# Altium schematic symbol library MyCompLib.SchLib: 97 symbols
Pins are listed as number, name and electrical type; pins without a type are passive.

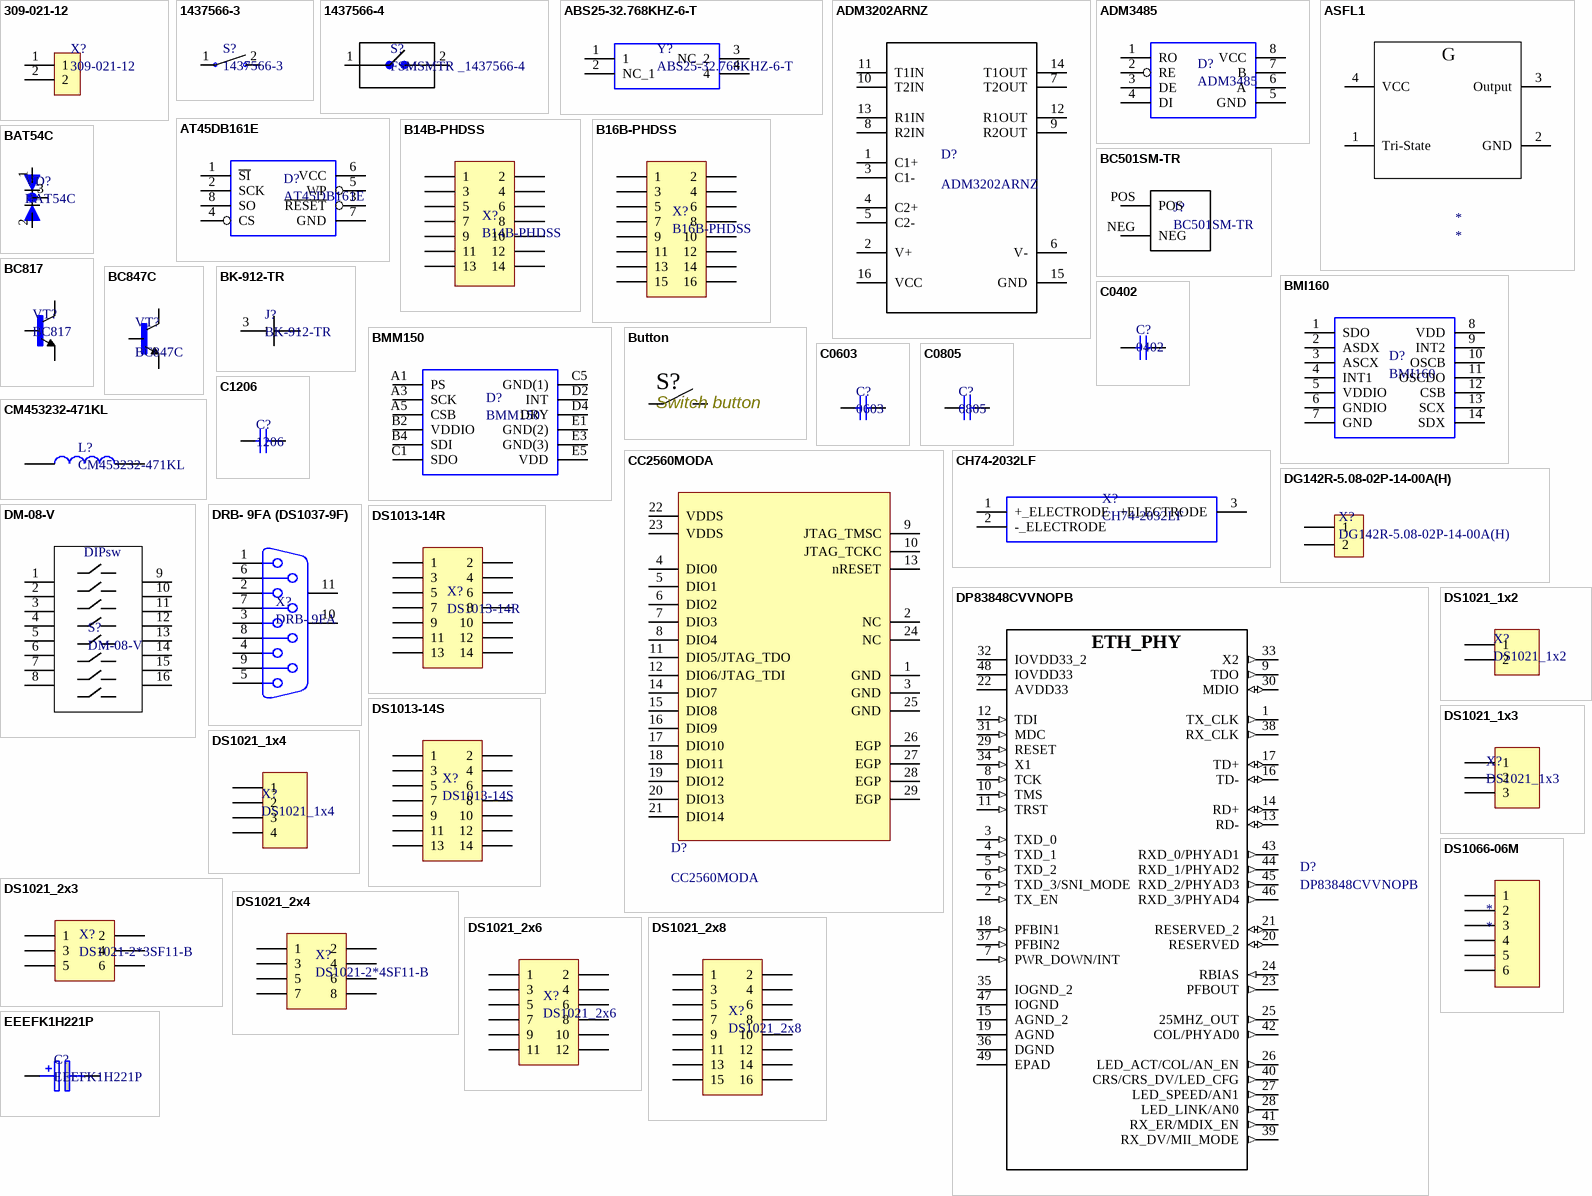
[diagram p0: symbols 309-021-12 to EEEFK1H221P]

## 309-021-12
designator X?
DG390-5.0-02P (XY118-2P-05) Зажимной Клеммник 2-контактный, 5.0мм угловой
footprint 390-021-12
pins: 1, 2

## 1437566-3
designator S?
SMD button
footprint 1437566-3
pins: 1, 2

## 1437566-4
designator S?, comment FSMSMTR _1437566-4
Switch Tactile OFF _ON_ SPST Rectangular Button Gull Wing 0.05A 12VDC 1.77N SMD T/R
footprint 1437566-4
pins: 1, 2

## ABS25-32.768KHZ-6-T
designator Y?
32.768 kHz LOW FREQUENCY SMD CRYSTAL
footprint ABS25
pins: 1, 2 NC_1, 3 NC_2, 4

## ADM3202ARNZ
designator D?
3.3V SMD RS232-UART
footprint SOIC-16
pins: 1 C1+, 2 V+ (power), 3 C1-, 4 C2+, 5 C2-, 6 V- (power), 7 T2OUT, 8 R2IN, 9 R2OUT, 10 T2IN, 11 T1IN, 12 R1OUT, 13 R1IN, 14 T1OUT, 15 GND, 16 VCC (power)

## ADM3485
designator D?
3V RS485 Transciever
footprint SOIC8 (SO-8)
pins: 1 RO, 2 RE, 3 DE, 4 DI (power), 5 GND, 6 A, 7 B, 8 VCC (power)

## ASFL1
designator *
pins: 1 Tri-State, 2 GND, 3 Output, 4 VCC
text: G

## AT45DB161E
designator D?
SPI FLASH 16Mbit(528 bytes x 4096 pages)
footprint SOIC8(5.3mm)
pins: 1 ~{SI}, 2 SCK, 3 ~{RESET}, 4 CS (power), 5 WP, 6 VCC, 7 GND, 8 SO (power)

## B14B-PHDSS
designator X?
HEADER, PHD, TOP, 16WAY, 2MM; Pitch Spacing:2mm; No. of Contacts:14Contacts;
footprint PHD14
pins: 1, 2, 3, 4, 5, 6, 7, 8, 9, 10, 11, 12, 13, 14

## B16B-PHDSS
designator X?
HEADER, PHD, TOP, 16WAY, 2MM; Pitch Spacing:2mm; No. of Contacts:16Contacts;
footprint PHD16
pins: 1, 2, 3, 4, 5, 6, 7, 8, 9, 10, 11, 12, 13, 14, 15, 16

## BAT54C
designator VD?
Small Signal Schottky Diode, Dual Common Cathode, 30 V, 200 mA, 400 mV, 600 mA, 125 C
footprint BAT54C_SOT23-3
pins: 1 A1, 2 A2, 3 C

## BC501SM-TR
designator J?
Holder Coin Cell For Cr1220 Smd
footprint BC501SM-TR
pins: NEG, POS

## BC817
designator VT?
Transistor, Npn, 0.5a, 45v, Sot23
footprint SOT23
pins: B, C, E

## BC847C
designator VT?
Транзистор BJT NPN 45В 0.1А 0.25Вт
footprint SOT23
pins: B, C, E

## BK-912-TR
designator J?
Holder Coin Cell 20mm Smd
footprint BK-912-TR (CR2032battery holder)
pins: 1 POS, 2 POS, 3 NEG

## BMI160
designator D?
IMUs - Inertial Measurement Units 6-Axis 950uA
footprint PQFN50P300X250X88-14N
pins: 1 SDO, 2 ASDX, 3 ASCX, 4 INT1, 5 VDDIO (power), 6 GNDIO, 7 GND, 8 VDD (power), 9 INT2, 10 OSCB, 11 OSCDO, 12 CSB, 13 SCX, 14 SDX

## BMM150
designator D?
Board Mount Hall Effect / Magnetic Sensors 3-Axis 1.56x1.56mm WLCSP-12 Geomagnetic
footprint BGA12C28P5X5
pins: A1 PS, A3 SCK, A5 CSB, B2 VDDIO, B4 SDI, C1 SDO, C5 GND(1), D2 INT, D4 DRY, E1 GND(2), E3 GND(3), E5 VDD

## Button
designator S?, comment Switch button
pins: 1, 2

## C0402
designator C?, comment 0402
SMD Cap 0402
footprint C_SMD0402
pins: 1, 2

## C0603
designator C?, comment 0603
SMD Cap 0603
footprint C_SMD0603
pins: 1, 2

## C0805
designator C?, comment 0805
SMD Cap 0805
footprint C_SMD0805
pins: 1, 2

## C1206
designator C?, comment 1206
SMD Cap 1206
footprint C_SMD1206
pins: 1, 2

## CC2560MODA
designator D?
BLE module
footprint CC2560MODA_PCB
pins: 1 GND (power), 2 NC, 3 GND, 4 DIO0, 5 DIO1, 6 DIO2, 7 DIO3, 8 DIO4, 9 JTAG_TMSC, 10 JTAG_TCKC, 11 DIO5/JTAG_TDO, 12 DIO6/JTAG_TDI, 13 nRESET, 14 DIO7, 15 DIO8, 16 DIO9, 17 DIO10, 18 DIO11, 19 DIO12, 20 DIO13, 21 DIO14, 22 VDDS, 23 VDDS, 24 NC, 25 GND, 26 EGP, 27 EGP, 28 EGP, 29 EGP

## CH74-2032LF
designator X?
MULTICOMP - CH74-2032LF - BATTERY HOLDER, DIP, VERT, 20MM
footprint CH742032
pins: 1 +_ELECTRODE, 2 -_ELECTRODE, 3 +ELECTRODE

## CM453232-471KL
designator L?
BOURNS - CM453232-471KL - INDUCTOR, 4532 CASE, 470UH
footprint INDPM4532
pins: 1, 2

## DG142R-5.08-02P-14-00A(H)
designator X?
Нажимной, безвинтовой клеммный блок на 2 контакта. Зажим типа торцевой контакт. Серия DG142R-5.08
footprint DG142R-5.08-02P-14-00A(H); pin to pad 1>1+3 2>2+4
pins: 1, 2

## DM-08-V
designator S?
SMD DIPSWITCH8
footprint DM-08-V (dipswitch8)
pins: 1, 2, 3, 4, 5, 6, 7, 8, 9, 10, 11, 12, 13, 14, 15, 16
text: DIPsw

## DP83848CVVNOPB
designator D?
ETH Transciever
footprint QFP48
pins: 1 TX_CLK (out), 2 TX_EN (in), 3 TXD_0 (in), 4 TXD_1 (in), 5 TXD_2 (in), 6 TXD_3/SNI_MODE (in), 7 PWR_DOWN/INT (in), 8 TCK (in), 9 TDO (out), 10 TMS (in), 11 TRST (in), 12 TDI (in), 13 RD- (io), 14 RD+ (io), 15 AGND_2, 16 TD- (io), 17 TD+ (io), 18 PFBIN1 (in), 19 AGND, 20 RESERVED (io), 21 RESERVED_2 (io), 22 AVDD33 (power), 23 PFBOUT (out), 24 RBIAS (in), 25 25MHZ_OUT (out), 26 LED_ACT/COL/AN_EN (out), 27 LED_SPEED/AN1 (out), 28 LED_LINK/AN0 (out), 29 RESET (in), 30 MDIO (io), 31 MDC (in), 32 IOVDD33_2 (power), 33 X2 (out), 34 X1 (in), 35 IOGND_2, 36 DGND, 37 PFBIN2 (in), 38 RX_CLK (out), 39 RX_DV/MII_MODE (out), 40 CRS/CRS_DV/LED_CFG (out), 41 RX_ER/MDIX_EN (out), 42 COL/PHYAD0 (out), 43 RXD_0/PHYAD1 (out), 44 RXD_1/PHYAD2 (out), 45 RXD_2/PHYAD3 (out), 46 RXD_3/PHYAD4 (out), 47 IOGND, 48 IOVDD33 (power), 49 EPAD
text: ETH_PHY

## DRB- 9FA (DS1037-9F)
designator X?, comment DRB- 9FA
DRB- 9FA (DS1037-9F)
footprint DRB- 9FA
pins: 1, 2, 3, 4, 5, 6, 7, 8, 9, 10 MH1, 11 MH2

## DS1013-14R
designator X?
Вилка на плату угловая 14 конт. 2.54мм
footprint IDC2-7H
pins: 1, 2, 3, 4, 5, 6, 7, 8, 9, 10, 11, 12, 13, 14

## DS1013-14S
designator X?
Вилка на плату прямая 14 конт. 2.54мм
footprint IDC2-7
pins: 1, 2, 3, 4, 5, 6, 7, 8, 9, 10, 11, 12, 13, 14

## DS1021_1x2
designator X?
Вилка штыревая 2.54мм 1x2 прямая тип1
footprint PLD2
pins: 1, 2

## DS1021_1x3
designator X?
Вилка штыревая 2.54мм 1x3 прямая тип1
footprint PLD1x3
pins: 1, 2, 3

## DS1021_1x4
designator X?
Вилка штыревая 2.54мм 1x4 прямая тип1
footprint PLD1X4
pins: 1, 2, 3, 4

## DS1021_2x3
designator X?, comment DS1021-2*3SF11-B
Вилка штыревая 2.54мм 2x3 прямая тип1
footprint PLD2-3
pins: 1, 2, 3, 4, 5, 6

## DS1021_2x4
designator X?, comment DS1021-2*4SF11-B
Вилка штыревая 2.54мм 2x4 прямая тип1
footprint PLD2-4
pins: 1, 2, 3, 4, 5, 6, 7, 8

## DS1021_2x6
designator X?
Вилка штыревая 2.54мм 2x6 прямая тип1
footprint PLD2-6
pins: 1, 2, 3, 4, 5, 6, 7, 8, 9, 10, 11, 12

## DS1021_2x8
designator X?
Вилка штыревая 2.54мм 2х8 прямая
footprint PLD2X8
pins: 1, 2, 3, 4, 5, 6, 7, 8, 9, 10, 11, 12, 13, 14, 15, 16

## DS1066-06M
designator *
footprint DS1066-06M
pins: 1, 2, 3, 4, 5, 6

## EEEFK1H221P
designator C?
Ecap 220uF 50V G case Panasonic Aluminium Electrolytic Capacitor 220F 50 V dc 10mm Surface Mount series FK SMD lifetime 2000h
footprint EEEFK1H221P
pins: 1 +, 2 -

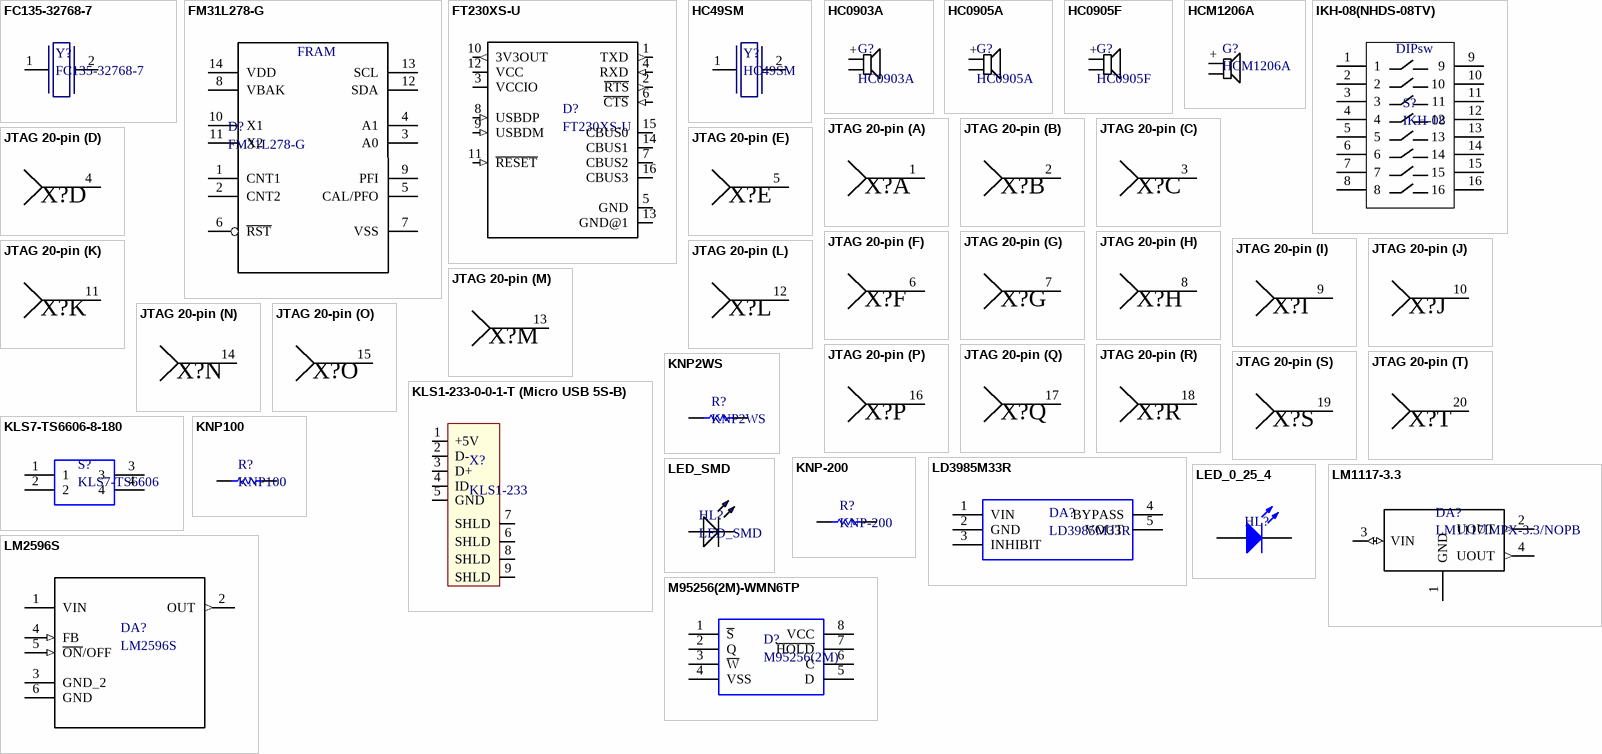
[diagram p1: symbols FC135-32768-7 to M95256(2M)-WMN6TP]

## FC135-32768-7
designator Y?
Clock SMD Crystal
footprint FC-135
pins: 1, 2

## FM31L278-G
designator D?
FRAM
footprint SOIC14
pins: 1 CNT1, 2 CNT2 (power), 3 A0, 4 A1, 5 CAL/PFO, 6 ~{RST} (power), 7 VSS, 8 VBAK, 9 PFI, 10 X1, 11 X2, 12 SDA, 13 SCL, 14 VDD

## FT230XS-U
designator D?
FT230XS-U, USB Controller, 3MBd, USB 1.1, USB 2.0, 5 V, 16-Pin SSOP
footprint SSOP16
pins: 1 TXD (out), 2 ~{RTS} (out), 3 VCCIO (power), 4 RXD (in), 5 GND (power), 6 ~{CTS} (in), 7 CBUS2 (io), 8 USBDP (in), 9 USBDM (in), 10 3V3OUT (out), 11 ~{RESET} (in), 12 VCC (power), 13 GND@1 (power), 14 CBUS1 (io), 15 CBUS0 (io), 16 CBUS3 (io)

## HC49SM
designator Y?
footprint HC49SM
pins: 1, 2

## HC0903A
designator G?
Buzzer 3V 80mA h=5mm d=9.5mm 3200Hz
footprint HC090xA
pins: 2, +

## HC0905A
designator G?
Buzzer 5V 80mA h=5mm d=9.5mm 3200Hz
footprint HC090xA
pins: 2, +

## HC0905F
designator G?
Buzzer 5V 80mA h=5mm d=9.5mm 3200Hz
footprint HC090xF
pins: 2, +

## HCM1206A
designator G?
6 В, 12 мм, Излучатель звука
footprint HCM1206X
pins: 2, +

## IKH-08(NHDS-08TV)
designator S?, comment IKH-08
SMD DIPSWITCH8
pins: 1, 2, 3, 4, 5, 6, 7, 8, 9, 10, 11, 12, 13, 14, 15, 16
text: DIPsw

## JTAG 20-pin
designator X?  (value not drawn)
part A pins: 1
part B pins: 2
part C pins: 3
part D pins: 4
part E pins: 5
part F pins: 6
part G pins: 7
part H pins: 8
part I pins: 9
part J pins: 10
part K pins: 11
part L pins: 12
part M pins: 13
part N pins: 14
part O pins: 15
part P pins: 16
part Q pins: 17
part R pins: 18
part S pins: 19
part T pins: 20

## KLS1-233-0-0-1-T (Micro USB 5S-B)
designator X?, comment KLS1-233
Micro USB 5S-B connector
footprint KLS1233
pins: 1 +5V, 2 D-, 3 D+, 4 ID, 5 GND, 6 SHLD, 7 SHLD, 8 SHLD, 9 SHLD

## KLS7-TS6606-8-180
designator S?, comment KLS7-TS6606
6x6 Tact Switch Series
footprint KLS7TS
pins: 1, 2, 3, 4

## KNP2WS
designator R?
Резисторы с проволочной обмоткой – сквозное отверстие 2.2ohm 2W 5%
footprint KNP2WS
pins: 1, 2

## KNP100
designator R?
Резисторы с проволочной обмоткой – сквозное отверстие 2.2ohm 1W 5%
footprint KNP100
pins: 1, 2

## KNP-200
designator R?
2W throw-hole resistor
footprint KNP200
pins: 1, 2

## LD3985M33R
designator DA?
LD3985M33R, Low Dropout Voltage Regulator, 0.55A, 3.3V 2%, 2.5 to 6Vin, 5-Pin SOT-23
footprint SOT23-5
pins: 1 VIN, 2 GND, 3 INHIBIT, 4 BYPASS, 5 VOUT

## LED_0_25_4
designator HL?  (value not drawn)
Throw Hole 3mm diameter LED
footprint LED0254 (3mm diamter LED)
pins: 1 A, 2 K

## LED_SMD
designator HL?
TO-1608BC-BF \  TO-1608BC-MRE
footprint LED_SMD1608
footprint LED_SMD1608GREEN
pins: 1 POS, 2 NEG

## LM1117-3.3
designator DA?, comment LM1117IMPX-3.3/NOPB
Линейный регулятор с низким падением напряжения, 3.3В
footprint SOT223
pins: 1 GND, 2 UOUT (out), 3 VIN (io), 4 UOUT (out)

## LM2596S
designator DA?
SIMPLE SWITCHER&#174; 4.5V to 40V, 3A Low Component Count Step-Down Regulator
footprint TO263-5
pins: 1 VIN (power), 2 OUT (out), 3 GND_2, 4 FB (in), 5 ~{ON}/OFF (in), 6 GND

## M95256(2M)-WMN6TP
designator D?, comment M95256(2M)
M95256-WMN6TP, Serial EEPROM Memory 256kbit, Serial-SPI, 60ns 2.5  5.5 V, 8-Pin SOIC
footprint SOIC8 (SO-8)
pins: 1 ~{S}, 2 Q, 3 ~{W}, 4 VSS (power), 5 D, 6 C, 7 ~{HOLD}, 8 VCC (power)

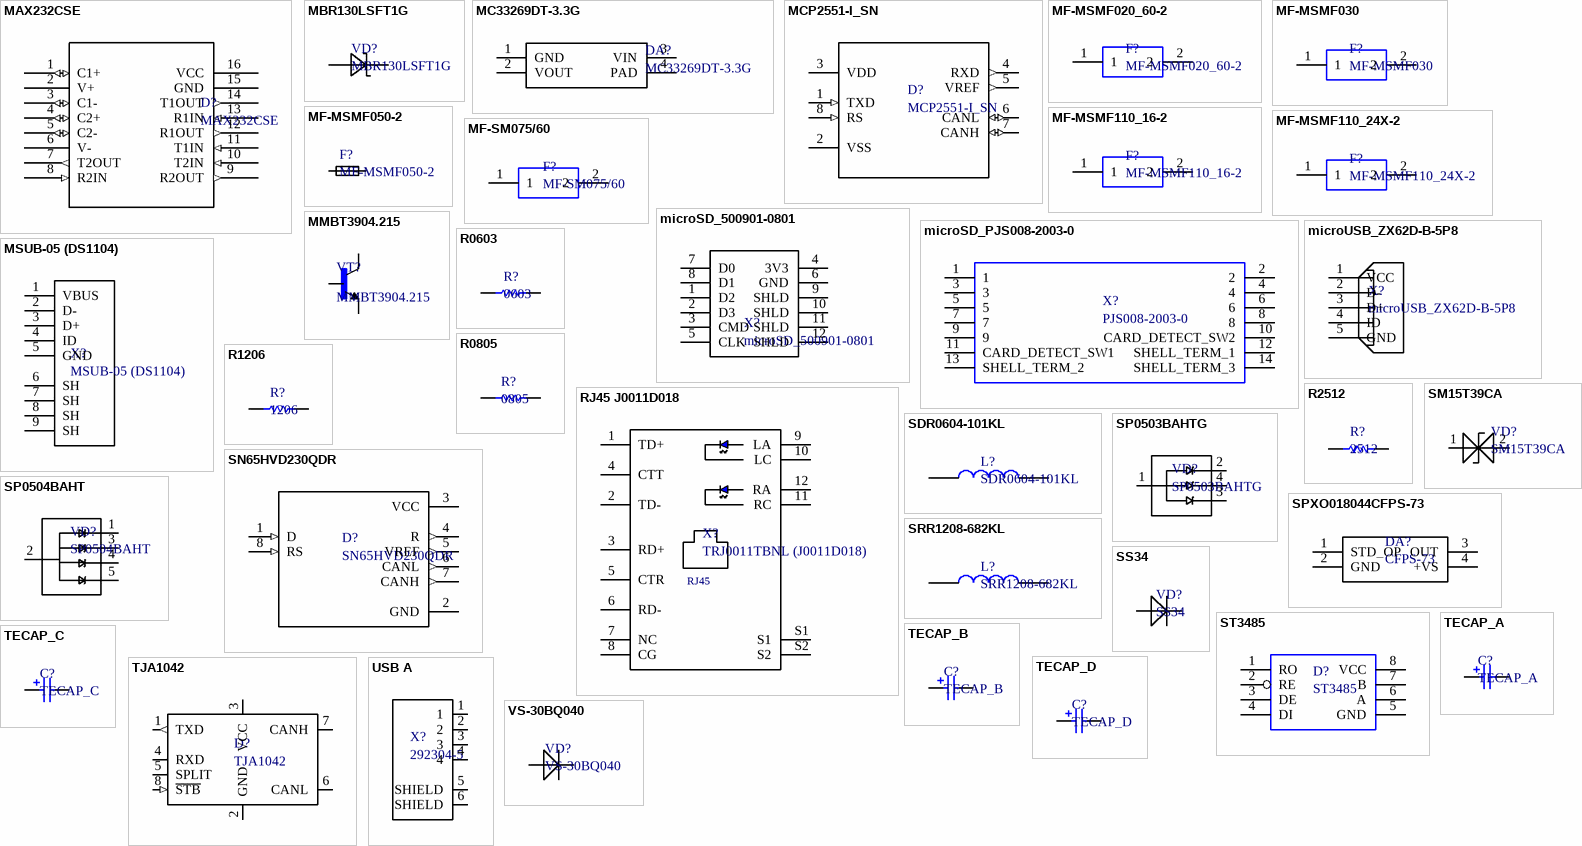
[diagram p2: symbols MAX232CSE to VS-30BQ040]

## MAX232CSE
designator D?
Dual Transmitter/Receiver RS-232 16-Pin SOIC N
footprint MAX232
pins: 1 C1+ (io), 2 V+ (power), 3 C1- (io), 4 C2+ (io), 5 C2- (io), 6 V- (power), 7 T2OUT (out), 8 R2IN (in), 9 R2OUT (out), 10 T2IN (in), 11 T1IN (in), 12 R1OUT (out), 13 R1IN (in), 14 T1OUT (out), 15 GND (power), 16 VCC (power)

## MBR130LSFT1G
designator VD?
Schottky Barrier Diodes, 1A to 2A, ON Semiconductor
footprint SOD-123FL
pins: A, C

## MC33269DT-3.3G
designator DA?
800mA,3.3V,LDO Voltage Reg,MC33269DT-3.3 MC33269DT-3.3G, Low Dropout Voltage Regulator, 0.8A, 3.3 V 1%, 3-Pin DPAK
footprint TO229
pins: 1 GND, 2 VOUT, 3 VIN, 4 PAD

## MCP2551-I_SN
designator D?
MCP2551 Series 5.5 V 1 Mb/s Surface Mount High-Speed CAN Transceiver - SOIC-8
footprint SOIC8 (SO-8)
pins: 1 TXD (in), 2 VSS, 3 VDD (power), 4 RXD (out), 5 VREF (out), 6 CANL (io), 7 CANH (io), 8 RS (in)

## MF-MSMF020_60-2
designator F?
Bourns 0.20A Resettable Surface Mount Fuse, 60V
footprint MF-MSMF020_60
pins: 1, 2

## MF-MSMF030
designator F?
Fuse, PTC, Resettable, SMD, 1812, 300mA Bourns 0.3A Surface Mount Resettable Fuse, 30 V
footprint MF-MSMF030
pins: 1, 2

## MF-MSMF050-2
designator F?
PTC Resettable Fuse 0.5A_hold_ 1A_trip_ 15V 100A 0.8W 0.15s 0.15Ohm SMD Solder Pad 1812 T/R
footprint FUSE1812x0
pins: 1, 2

## MF-MSMF110_16-2
designator F?
Fuse, PTC, Resettable, SMD,1812,1.1A,16V Bourns 1.1A Surface Mount Resettable Fuse, 16 V
footprint FUSC4632X85N
pins: 1, 2

## MF-MSMF110_24X-2
designator F?
PTC - 4.5mm(1812)SURFACE MNT Bourns 1.1A Surface Mount Resettable Fuse, 24 V
footprint MFMSMF11024X2
pins: 1, 2

## MF-SM075/60
designator F?
Resettable Fuse PTC 0.75A(hold) 1.5A(trip) 60V 10A 1.7W 0.3s 0.23Ohm SMD Solder Pad 7.98 X 5.44 X 3.
footprint MF-SM075/60
pins: 1, 2

## microSD_500901-0801
designator X?
TransFlash Memory Card,1.1mm hinge type TransFlash Memory Card,1.1mm hinge type
footprint 5009001-0801
pins: 1 D2, 2 D3, 3 CMD, 4 3V3, 5 CLK, 6 GND, 7 D0, 8 D1, 9 SHLD, 10 SHLD, 11 SHLD, 12 SHLD

## microSD_PJS008-2003-0
designator X?, comment PJS008-2003-0
Memory Card Connectors MicroSD Card Conn Revrs Mnt Push-Push
footprint PSJ008-2003-0
pins: 1, 2, 3, 4, 5, 6, 7, 8, 9, 10 CARD_DETECT_SW2, 11 CARD_DETECT_SW1, 12 SHELL_TERM_1, 13 SHELL_TERM_2, 14 SHELL_TERM_3

## microUSB_ZX62D-B-5P8
designator X?
SMD+DIP Micro USB; MICRO-B-SMD
footprint ZX62D-8-5P8
pins: 1 VCC (power), 2 D-, 3 D+, 4 ID, 5 GND (power)

## MMBT3904.215
designator VT?
Транзистор NPN 40В 0.2А [SOT-23-3]
footprint SOT23
pins: B, C, E

## MSUB-05 (DS1104)
designator X?
Conn Mini USB 2.0 Type B RCP 5 POS 0.8mm Solder RA SMD 5 Terminal 1 Port Tray
footprint MUSB-05-S-B-SM
pins: 1 VBUS, 2 D-, 3 D+, 4 ID, 5 GND, 6 SH, 7 SH, 8 SH, 9 SH

## R0603
designator R?, comment 0603
SMD Res 0603
footprint R_SMD0603
pins: 1, 2

## R0805
designator R?, comment 0805
SMD Res 0805
footprint R_SMD0805
pins: 1, 2

## R1206
designator R?, comment 1206
SMD Res 1206
footprint R_SMD1206
pins: 1, 2

## R2512
designator R?, comment 2512
SMD Res 2512
footprint R_SMD2512
pins: 1, 2

## RJ45 J0011D018
designator X?, comment TRJ0011TBNL (J0011D018)
Conn RJ-45 F 8 POS 2.54mm Solder RA Thru-Hole 12 Terminal 1 Port Cat 5/Cat 6
footprint J0011D018
pins: 1 TD+, 2 TD-, 3 RD+, 4 CTT, 5 CTR, 6 RD-, 7 NC, 8 CG, 9 LA, 10 LC, 11 RC, 12 RA, S1, S2
text: RJ45

## SDR0604-101KL
designator L?
Bourns SDR0604 Series Wire-wound SMD Inductor with a Ferrite Core, 100 H 10% 0.68A Idc Q:20
footprint SDR0604
pins: 1, 2

## SM15T39CA
designator VD?
TVS Diode Bi-Directional SM15T39CA 69.7V, 1500W, SMC 2-Pin
footprint DO214AB SMC
pins: 1 A, 2 K

## SN65HVD230QDR
designator D?
3.3-V CAN Transceiver with Standby Mode 8-SOIC -40 to 125
footprint SOIC8 (SO-8)
pins: 1 D (in), 2 GND (power), 3 VCC (power), 4 R (out), 5 VREF (out), 6 CANL (out), 7 CANH (out), 8 RS (in)

## SP0503BAHTG
designator VD?
TVS Diode-3
footprint SP0503BAHTG
pins: 1 GND, 2 A, 3 B, 4 C

## SP0504BAHT
designator VD?
TVS Diode-4
footprint SOT23-5
pins: 1, 2 GND, 3 C, 4 B, 5

## SPXO018044CFPS-73
designator DA?, comment CFPS-73
IQD FREQUENCY PRODUCTS - SPXO018044-CFPS-73 - OSCILLATOR FREQUENCY, 50MHZ
footprint CFPS-73
pins: 1 STD_OP, 2 GND, 3 OUT, 4 +VS

## SRR1208-682KL
designator L?
Fixed Inductors 6800uH 10% SMD 1208
footprint SRR1208
pins: 1, 2

## SS34
designator VD?
Rectifier, Schottky; DO-214AB; 3.0A IF; 0.75V; 40V; 100A IFRM; 10000V/us; 1000pF
footprint DO214AB SMC
pins: 1 POS, 2 NEG

## ST3485
designator D?
3.3 V low power transceiver for RS-485
footprint SOIC8 (SO-8)
pins: 1 RO, 2 RE, 3 DE, 4 DI (power), 5 GND, 6 A, 7 B, 8 VCC (power)

## TECAP_A
designator C?
Tantalum pol cap type A
footprint TECAP_A
pins: 1, 2

## TECAP_B
designator C?
Tantalum pol cap type B
footprint TECAP_B
pins: 1, 2

## TECAP_C
designator C?
Tantalum pol cap type D
footprint TECAP_C
pins: 1, 2

## TECAP_D
designator C?
Tantalum pol cap type D
footprint TECAP_D
pins: 1, 2

## TJA1042
designator D?
CAN Trasciever
footprint SOT96-1
pins: 1 TXD (out), 2 GND (power), 3 VCC (power), 4 RXD (io), 5 SPLIT (power), 6 CANL (io), 7 CANH (io), 8 ~{STB} (in)

## USB A
designator X?, comment 292304-5
Conn USB 2.0 Type B RCP 4 POS 2.5mm Solder RA Thru-Hole 4 Terminal 1 Port Tray
footprint 292304-5 (USB typeA)
pins: 1, 2, 3, 4, 5 SHIELD, 6 SHIELD

## VS-30BQ040
designator VD?
VS-30BQ040-M3/9AT Vishay VS-30BQ040-M3/9AT, SMT Schottky Diode, 40V 4A, 2-Pin DO-214AB
footprint DO214AB SMC
pins: 1 POS, 2 NEG